# Altium integrated library ALTIUM-WCAP-ASLI-rev17a.IntLib: 142 symbols (part 2 of 2)
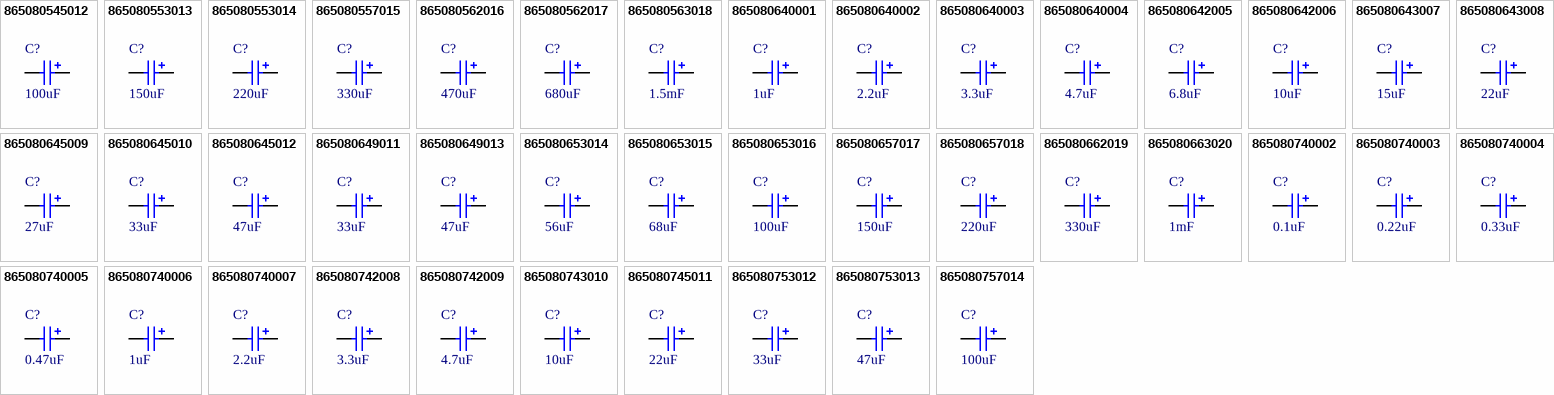
[diagram p4: symbols 865080545012 to 865080757014]

## 865080640004
designator C?  value 4.7uF
WCAP-ASLI Aluminum Electrolytic Capacitors, size Ф4x5.5mm, 50V DC, 4.7uF; Part Number: 865080640004; Rated Voltage: 50V DC; ComponentLink1Description: Manufacturer; ComponentLink1URL: http://www.we-online.de; ComponentLink2Description: Datasheet; ComponentLink2URL: http://katalog.we-online.de/pbs/datasheet/865080640004.pdf; Published Date: June 2017; Publisher: Wurth Elektronik; Size: Ф4x5.5mm; Life Cycle: 2000h; Operating Temperature: -55 °C up to +105 °C
footprint WCAP-ASLI_4x5.5
pins: 1 P, 2 N

## 865080642005
designator C?  value 6.8uF
WCAP-ASLI Aluminum Electrolytic Capacitors, size Ф5x5.5mm, 50V DC, 6.8uF; Part Number: 865080642005; Rated Voltage: 50V DC; ComponentLink1Description: Manufacturer; ComponentLink1URL: http://www.we-online.de; ComponentLink2Description: Datasheet; ComponentLink2URL: http://katalog.we-online.de/pbs/datasheet/865080642005.pdf; Published Date: June 2017; Publisher: Wurth Elektronik; Size: Ф5x5.5mm; Life Cycle: 2000h; Operating Temperature: -55 °C up to +105 °C
footprint WCAP-ASLI_5x5.5
pins: 1 P, 2 N

## 865080642006
designator C?  value 10uF
WCAP-ASLI Aluminum Electrolytic Capacitors, size Ф5x5.5mm, 50V DC, 10uF; Part Number: 865080642006; Rated Voltage: 50V DC; ComponentLink1Description: Manufacturer; ComponentLink1URL: http://www.we-online.de; ComponentLink2Description: Datasheet; ComponentLink2URL: http://katalog.we-online.de/pbs/datasheet/865080642006.pdf; Published Date: June 2017; Publisher: Wurth Elektronik; Size: Ф5x5.5mm; Life Cycle: 2000h; Operating Temperature: -55 °C up to +105 °C
footprint WCAP-ASLI_5x5.5
pins: 1 P, 2 N

## 865080643007
designator C?  value 15uF
WCAP-ASLI Aluminum Electrolytic Capacitors, size Ф6.3x5.5mm, 50V DC, 15uF; Part Number: 865080643007; Rated Voltage: 50V DC; ComponentLink1Description: Manufacturer; ComponentLink1URL: http://www.we-online.de; ComponentLink2Description: Datasheet; ComponentLink2URL: http://katalog.we-online.de/pbs/datasheet/865080643007.pdf; Published Date: June 2017; Publisher: Wurth Elektronik; Size: Ф6.3x5.5mm; Life Cycle: 2000h; Operating Temperature: -55 °C up to +105 °C
footprint WCAP-ASLI_6.3x5.5
pins: 1 P, 2 N

## 865080643008
designator C?  value 22uF
WCAP-ASLI Aluminum Electrolytic Capacitors, size Ф6.3x5.5mm, 50V DC, 22uF; Part Number: 865080643008; Rated Voltage: 50V DC; ComponentLink1Description: Manufacturer; ComponentLink1URL: http://www.we-online.de; ComponentLink2Description: Datasheet; ComponentLink2URL: http://katalog.we-online.de/pbs/datasheet/865080643008.pdf; Published Date: June 2017; Publisher: Wurth Elektronik; Size: Ф6.3x5.5mm; Life Cycle: 2000h; Operating Temperature: -55 °C up to +105 °C
footprint WCAP-ASLI_6.3x5.5
pins: 1 P, 2 N

## 865080645009
designator C?  value 27uF
WCAP-ASLI Aluminum Electrolytic Capacitors, size Ф6.3x7.7mm, 50V DC, 27uF; Part Number: 865080645009; Rated Voltage: 50V DC; ComponentLink1Description: Manufacturer; ComponentLink1URL: http://www.we-online.de; ComponentLink2Description: Datasheet; ComponentLink2URL: http://katalog.we-online.de/pbs/datasheet/865080645009.pdf; Published Date: June 2017; Publisher: Wurth Elektronik; Size: Ф6.3x7.7mm; Life Cycle: 2000h; Operating Temperature: -55 °C up to +105 °C
footprint WCAP-ASLI_6.3x7.7
pins: 1 P, 2 N

## 865080645010
designator C?  value 33uF
WCAP-ASLI Aluminum Electrolytic Capacitors, size Ф6.3x7.7mm, 50V DC, 33uF; Part Number: 865080645010; Rated Voltage: 50V DC; ComponentLink1Description: Manufacturer; ComponentLink1URL: http://www.we-online.de; ComponentLink2Description: Datasheet; ComponentLink2URL: http://katalog.we-online.de/pbs/datasheet/865080645010.pdf; Published Date: June 2017; Publisher: Wurth Elektronik; Size: Ф6.3x7.7mm; Life Cycle: 2000h; Operating Temperature: -55 °C up to +105 °C
footprint WCAP-ASLI_6.3x7.7
pins: 1 P, 2 N

## 865080645012
designator C?  value 47uF
WCAP-ASLI Aluminum Electrolytic Capacitors, size Ф6.3x7.7mm, 50V DC, 47uF; Part Number: 865080645012; Rated Voltage: 50V DC; ComponentLink1Description: Manufacturer; ComponentLink1URL: http://www.we-online.de; ComponentLink2Description: Datasheet; ComponentLink2URL: http://katalog.we-online.de/pbs/datasheet/865080645012.pdf; Published Date: June 2017; Publisher: Wurth Elektronik; Size: Ф6.3x7.7mm; Life Cycle: 2000h; Operating Temperature: -55 °C up to +105 °C
footprint WCAP-ASLI_6.3x7.7
pins: 1 P, 2 N

## 865080649011
designator C?  value 33uF
WCAP-ASLI Aluminum Electrolytic Capacitors, size Ф8x6.5mm, 50V DC, 33uF; Part Number: 865080649011; Rated Voltage: 50V DC; ComponentLink1Description: Manufacturer; ComponentLink1URL: http://www.we-online.de; ComponentLink2Description: Datasheet; ComponentLink2URL: http://katalog.we-online.de/pbs/datasheet/865080649011.pdf; Published Date: June 2017; Publisher: Wurth Elektronik; Size: Ф8x6.5mm; Life Cycle: 2000h; Operating Temperature: -55 °C up to +105 °C
footprint WCAP-ASLI_8x6.5
pins: 1 P, 2 N

## 865080649013
designator C?  value 47uF
WCAP-ASLI Aluminum Electrolytic Capacitors, size Ф8x6.5mm, 50V DC, 47uF; Part Number: 865080649013; Rated Voltage: 50V DC; ComponentLink1Description: Manufacturer; ComponentLink1URL: http://www.we-online.de; ComponentLink2Description: Datasheet; ComponentLink2URL: http://katalog.we-online.de/pbs/datasheet/865080649013.pdf; Published Date: June 2017; Publisher: Wurth Elektronik; Size: Ф8x6.5mm; Life Cycle: 2000h; Operating Temperature: -55 °C up to +105 °C
footprint WCAP-ASLI_8x6.5
pins: 1 P, 2 N

## 865080653014
designator C?  value 56uF
WCAP-ASLI Aluminum Electrolytic Capacitors, size Ф8x10.5mm, 50V DC, 56uF; Part Number: 865080653014; Rated Voltage: 50V DC; ComponentLink1Description: Manufacturer; ComponentLink1URL: http://www.we-online.de; ComponentLink2Description: Datasheet; ComponentLink2URL: http://katalog.we-online.de/pbs/datasheet/865080653014.pdf; Published Date: June 2017; Publisher: Wurth Elektronik; Size: Ф8x10.5mm; Life Cycle: 2000h; Operating Temperature: -55 °C up to +105 °C
footprint WCAP-ASLI_8x10.5
pins: 1 P, 2 N

## 865080653015
designator C?  value 68uF
WCAP-ASLI Aluminum Electrolytic Capacitors, size Ф8x10.5mm, 50V DC, 68uF; Part Number: 865080653015; Rated Voltage: 50V DC; ComponentLink1Description: Manufacturer; ComponentLink1URL: http://www.we-online.de; ComponentLink2Description: Datasheet; ComponentLink2URL: http://katalog.we-online.de/pbs/datasheet/865080653015.pdf; Published Date: June 2017; Publisher: Wurth Elektronik; Size: Ф8x10.5mm; Life Cycle: 2000h; Operating Temperature: -55 °C up to +105 °C
footprint WCAP-ASLI_8x10.5
pins: 1 P, 2 N

## 865080653016
designator C?  value 100uF
WCAP-ASLI Aluminum Electrolytic Capacitors, size Ф8x10.5mm, 50V DC, 100uF; Part Number: 865080653016; Rated Voltage: 50V DC; ComponentLink1Description: Manufacturer; ComponentLink1URL: http://www.we-online.de; ComponentLink2Description: Datasheet; ComponentLink2URL: http://katalog.we-online.de/pbs/datasheet/865080653016.pdf; Published Date: June 2017; Publisher: Wurth Elektronik; Size: Ф8x10.5mm; Life Cycle: 2000h; Operating Temperature: -55 °C up to +105 °C
footprint WCAP-ASLI_8x10.5
pins: 1 P, 2 N

## 865080657017
designator C?  value 150uF
WCAP-ASLI Aluminum Electrolytic Capacitors, size Ф10x10.5mm, 50V DC, 150uF; Part Number: 865080657017; Rated Voltage: 50V DC; ComponentLink1Description: Manufacturer; ComponentLink1URL: http://www.we-online.de; ComponentLink2Description: Datasheet; ComponentLink2URL: http://katalog.we-online.de/pbs/datasheet/865080657017.pdf; Published Date: June 2017; Publisher: Wurth Elektronik; Size: Ф10x10.5mm; Life Cycle: 2000h; Operating Temperature: -55 °C up to +105 °C
footprint WCAP-ASLI_10x10.5
pins: 1 P, 2 N

## 865080657018
designator C?  value 220uF
WCAP-ASLI Aluminum Electrolytic Capacitors, size Ф10x10.5mm, 50V DC, 220uF; Part Number: 865080657018; Rated Voltage: 50V DC; ComponentLink1Description: Manufacturer; ComponentLink1URL: http://www.we-online.de; ComponentLink2Description: Datasheet; ComponentLink2URL: http://katalog.we-online.de/pbs/datasheet/865080657018.pdf; Published Date: June 2017; Publisher: Wurth Elektronik; Size: Ф10x10.5mm; Life Cycle: 2000h; Operating Temperature: -55 °C up to +105 °C
footprint WCAP-ASLI_10x10.5
pins: 1 P, 2 N

## 865080662019
designator C?  value 330uF
WCAP-ASLI Aluminum Electrolytic Capacitors, size Ф12.5x14mm, 50V DC, 330uF; Part Number: 865080662019; Rated Voltage: 50V DC; ComponentLink1Description: Manufacturer; ComponentLink1URL: http://www.we-online.de; ComponentLink2Description: Datasheet; ComponentLink2URL: http://katalog.we-online.de/pbs/datasheet/865080662019.pdf; Published Date: June 2017; Publisher: Wurth Elektronik; Size: Ф12.5x14mm; Life Cycle: 2000h; Operating Temperature: -55 °C up to +105 °C
footprint WCAP-ASLI_12.5x14
pins: 1 P, 2 N

## 865080663020
designator C?  value 1mF
WCAP-ASLI Aluminum Electrolytic Capacitors, size Ф16x17mm, 50V DC, 1mF; Part Number: 865080663020; Rated Voltage: 50V DC; ComponentLink1Description: Manufacturer; ComponentLink1URL: http://www.we-online.de; ComponentLink2Description: Datasheet; ComponentLink2URL: http://katalog.we-online.de/pbs/datasheet/865080663020.pdf; Published Date: June 2017; Publisher: Wurth Elektronik; Size: Ф16x17mm; Life Cycle: 2000h; Operating Temperature: -55 °C up to +105 °C
footprint WCAP-ASLI_16x17
pins: 1 P, 2 N

## 865080740002
designator C?  value 0.1uF
WCAP-ASLI Aluminum Electrolytic Capacitors, size Ф4x5.5mm, 63V DC, 0.1uF; Part Number: 865080740002; Rated Voltage: 63V DC; ComponentLink1Description: Manufacturer; ComponentLink1URL: http://www.we-online.de; ComponentLink2Description: Datasheet; ComponentLink2URL: http://katalog.we-online.de/pbs/datasheet/865080740002.pdf; Published Date: June 2017; Publisher: Wurth Elektronik; Size: Ф4x5.5mm; Life Cycle: 2000h; Operating Temperature: -55 °C up to +105 °C
footprint WCAP-ASLI_4x5.5
pins: 1 P, 2 N

## 865080740003
designator C?  value 0.22uF
WCAP-ASLI Aluminum Electrolytic Capacitors, size Ф4x5.5mm, 63V DC, 0.22uF; Part Number: 865080740003; Rated Voltage: 63V DC; ComponentLink1Description: Manufacturer; ComponentLink1URL: http://www.we-online.de; ComponentLink2Description: Datasheet; ComponentLink2URL: http://katalog.we-online.de/pbs/datasheet/865080740003.pdf; Published Date: June 2017; Publisher: Wurth Elektronik; Size: Ф4x5.5mm; Life Cycle: 2000h; Operating Temperature: -55 °C up to +105 °C
footprint WCAP-ASLI_4x5.5
pins: 1 P, 2 N

## 865080740004
designator C?  value 0.33uF
WCAP-ASLI Aluminum Electrolytic Capacitors, size Ф4x5.5mm, 63V DC, 0.33uF; Part Number: 865080740004; Rated Voltage: 63V DC; ComponentLink1Description: Manufacturer; ComponentLink1URL: http://www.we-online.de; ComponentLink2Description: Datasheet; ComponentLink2URL: http://katalog.we-online.de/pbs/datasheet/865080740004.pdf; Published Date: June 2017; Publisher: Wurth Elektronik; Size: Ф4x5.5mm; Life Cycle: 2000h; Operating Temperature: -55 °C up to +105 °C
footprint WCAP-ASLI_4x5.5
pins: 1 P, 2 N

## 865080740005
designator C?  value 0.47uF
WCAP-ASLI Aluminum Electrolytic Capacitors, size Ф4x5.5mm, 63V DC, 0.47uF; Part Number: 865080740005; Rated Voltage: 63V DC; ComponentLink1Description: Manufacturer; ComponentLink1URL: http://www.we-online.de; ComponentLink2Description: Datasheet; ComponentLink2URL: http://katalog.we-online.de/pbs/datasheet/865080740005.pdf; Published Date: June 2017; Publisher: Wurth Elektronik; Size: Ф4x5.5mm; Life Cycle: 2000h; Operating Temperature: -55 °C up to +105 °C
footprint WCAP-ASLI_4x5.5
pins: 1 P, 2 N

## 865080740006
designator C?  value 1uF
WCAP-ASLI Aluminum Electrolytic Capacitors, size Ф4x5.5mm, 63V DC, 1uF; Part Number: 865080740006; Rated Voltage: 63V DC; ComponentLink1Description: Manufacturer; ComponentLink1URL: http://www.we-online.de; ComponentLink2Description: Datasheet; ComponentLink2URL: http://katalog.we-online.de/pbs/datasheet/865080740006.pdf; Published Date: June 2017; Publisher: Wurth Elektronik; Size: Ф4x5.5mm; Life Cycle: 2000h; Operating Temperature: -55 °C up to +105 °C
footprint WCAP-ASLI_4x5.5
pins: 1 P, 2 N

## 865080740007
designator C?  value 2.2uF
WCAP-ASLI Aluminum Electrolytic Capacitors, size Ф4x5.5mm, 63V DC, 2.2uF; Part Number: 865080740007; Rated Voltage: 63V DC; ComponentLink1Description: Manufacturer; ComponentLink1URL: http://www.we-online.de; ComponentLink2Description: Datasheet; ComponentLink2URL: http://katalog.we-online.de/pbs/datasheet/865080740007.pdf; Published Date: June 2017; Publisher: Wurth Elektronik; Size: Ф4x5.5mm; Life Cycle: 2000h; Operating Temperature: -55 °C up to +105 °C
footprint WCAP-ASLI_4x5.5
pins: 1 P, 2 N

## 865080742008
designator C?  value 3.3uF
WCAP-ASLI Aluminum Electrolytic Capacitors, size Ф5x5.5mm, 63V DC, 3.3uF; Part Number: 865080742008; Rated Voltage: 63V DC; ComponentLink1Description: Manufacturer; ComponentLink1URL: http://www.we-online.de; ComponentLink2Description: Datasheet; ComponentLink2URL: http://katalog.we-online.de/pbs/datasheet/865080742008.pdf; Published Date: June 2017; Publisher: Wurth Elektronik; Size: Ф5x5.5mm; Life Cycle: 2000h; Operating Temperature: -55 °C up to +105 °C
footprint WCAP-ASLI_5x5.5
pins: 1 P, 2 N

## 865080742009
designator C?  value 4.7uF
WCAP-ASLI Aluminum Electrolytic Capacitors, size Ф5x5.5mm, 63V DC, 4.7uF; Part Number: 865080742009; Rated Voltage: 63V DC; ComponentLink1Description: Manufacturer; ComponentLink1URL: http://www.we-online.de; ComponentLink2Description: Datasheet; ComponentLink2URL: http://katalog.we-online.de/pbs/datasheet/865080742009.pdf; Published Date: June 2017; Publisher: Wurth Elektronik; Size: Ф5x5.5mm; Life Cycle: 2000h; Operating Temperature: -55 °C up to +105 °C
footprint WCAP-ASLI_5x5.5
pins: 1 P, 2 N

## 865080743010
designator C?  value 10uF
WCAP-ASLI Aluminum Electrolytic Capacitors, size Ф6.3x5.5mm, 63V DC, 10uF; Part Number: 865080743010; Rated Voltage: 63V DC; ComponentLink1Description: Manufacturer; ComponentLink1URL: http://www.we-online.de; ComponentLink2Description: Datasheet; ComponentLink2URL: http://katalog.we-online.de/pbs/datasheet/865080743010.pdf; Published Date: June 2017; Publisher: Wurth Elektronik; Size: Ф6.3x5.5mm; Life Cycle: 2000h; Operating Temperature: -55 °C up to +105 °C
footprint WCAP-ASLI_6.3x5.5
pins: 1 P, 2 N

## 865080745011
designator C?  value 22uF
WCAP-ASLI Aluminum Electrolytic Capacitors, size Ф6.3x7.7mm, 63V DC, 22uF; Part Number: 865080745011; Rated Voltage: 63V DC; ComponentLink1Description: Manufacturer; ComponentLink1URL: http://www.we-online.de; ComponentLink2Description: Datasheet; ComponentLink2URL: http://katalog.we-online.de/pbs/datasheet/865080745011.pdf; Published Date: June 2017; Publisher: Wurth Elektronik; Size: Ф6.3x7.7mm; Life Cycle: 2000h; Operating Temperature: -55 °C up to +105 °C
footprint WCAP-ASLI_6.3x7.7
pins: 1 P, 2 N

## 865080753012
designator C?  value 33uF
WCAP-ASLI Aluminum Electrolytic Capacitors, size Ф8x10.5mm, 63V DC, 33uF; Part Number: 865080753012; Rated Voltage: 63V DC; ComponentLink1Description: Manufacturer; ComponentLink1URL: http://www.we-online.de; ComponentLink2Description: Datasheet; ComponentLink2URL: http://katalog.we-online.de/pbs/datasheet/865080753012.pdf; Published Date: June 2017; Publisher: Wurth Elektronik; Size: Ф8x10.5mm; Life Cycle: 2000h; Operating Temperature: -55 °C up to +105 °C
footprint WCAP-ASLI_8x10.5
pins: 1 P, 2 N

## 865080753013
designator C?  value 47uF
WCAP-ASLI Aluminum Electrolytic Capacitors, size Ф8x10.5mm, 63V DC, 47uF; Part Number: 865080753013; Rated Voltage: 63V DC; ComponentLink1Description: Manufacturer; ComponentLink1URL: http://www.we-online.de; ComponentLink2Description: Datasheet; ComponentLink2URL: http://katalog.we-online.de/pbs/datasheet/865080753013.pdf; Published Date: June 2017; Publisher: Wurth Elektronik; Size: Ф8x10.5mm; Life Cycle: 2000h; Operating Temperature: -55 °C up to +105 °C
footprint WCAP-ASLI_8x10.5
pins: 1 P, 2 N

## 865080757014
designator C?  value 100uF
WCAP-ASLI Aluminum Electrolytic Capacitors, size Ф10x10.5mm, 63V DC, 100uF; Part Number: 865080757014; Rated Voltage: 63V DC; ComponentLink1Description: Manufacturer; ComponentLink1URL: http://www.we-online.de; ComponentLink2Description: Datasheet; ComponentLink2URL: http://katalog.we-online.de/pbs/datasheet/865080757014.pdf; Published Date: June 2017; Publisher: Wurth Elektronik; Size: Ф10x10.5mm; Life Cycle: 2000h; Operating Temperature: -55 °C up to +105 °C
footprint WCAP-ASLI_10x10.5
pins: 1 P, 2 N

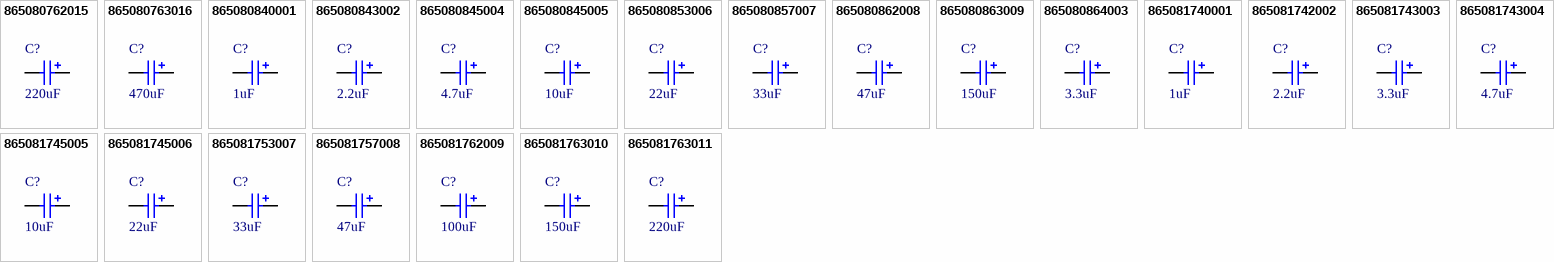
[diagram p3: symbols 865080762015 to 865081763011]

## 865080762015
designator C?  value 220uF
WCAP-ASLI Aluminum Electrolytic Capacitors, size Ф12.5x14mm, 63V DC, 220uF; Part Number: 865080762015; Rated Voltage: 63V DC; ComponentLink1Description: Manufacturer; ComponentLink1URL: http://www.we-online.de; ComponentLink2Description: Datasheet; ComponentLink2URL: http://katalog.we-online.de/pbs/datasheet/865080762015.pdf; Published Date: June 2017; Publisher: Wurth Elektronik; Size: Ф12.5x14mm; Life Cycle: 2000h; Operating Temperature: -55 °C up to +105 °C
footprint WCAP-ASLI_12.5x14
pins: 1 P, 2 N

## 865080763016
designator C?  value 470uF
WCAP-ASLI Aluminum Electrolytic Capacitors, size Ф16x17mm, 63V DC, 470uF; Part Number: 865080763016; Rated Voltage: 63V DC; ComponentLink1Description: Manufacturer; ComponentLink1URL: http://www.we-online.de; ComponentLink2Description: Datasheet; ComponentLink2URL: http://katalog.we-online.de/pbs/datasheet/865080763016.pdf; Published Date: June 2017; Publisher: Wurth Elektronik; Size: Ф16x17mm; Life Cycle: 2000h; Operating Temperature: -55 °C up to +105 °C
footprint WCAP-ASLI_16x17
pins: 1 P, 2 N

## 865080840001
designator C?  value 1uF
WCAP-ASLI Aluminum Electrolytic Capacitors, size Ф4x5.5mm, 100V DC, 1uF; Part Number: 865080840001; Rated Voltage: 100V DC; ComponentLink1Description: Manufacturer; ComponentLink1URL: http://www.we-online.de; ComponentLink2Description: Datasheet; ComponentLink2URL: http://katalog.we-online.de/pbs/datasheet/865080840001.pdf; Published Date: June 2017; Publisher: Wurth Elektronik; Size: Ф4x5.5mm; Life Cycle: 2000h; Operating Temperature: -55 °C up to +105 °C
footprint WCAP-ASLI_4x5.5
pins: 1 P, 2 N

## 865080843002
designator C?  value 2.2uF
WCAP-ASLI Aluminum Electrolytic Capacitors, size Ф6.3x5.5mm, 100V DC, 2.2uF; Part Number: 865080843002; Rated Voltage: 100V DC; ComponentLink1Description: Manufacturer; ComponentLink1URL: http://www.we-online.de; ComponentLink2Description: Datasheet; ComponentLink2URL: http://katalog.we-online.de/pbs/datasheet/865080843002.pdf; Published Date: June 2017; Publisher: Wurth Elektronik; Size: Ф6.3x5.5mm; Life Cycle: 2000h; Operating Temperature: -55 °C up to +105 °C
footprint WCAP-ASLI_6.3x5.5
pins: 1 P, 2 N

## 865080845004
designator C?  value 4.7uF
WCAP-ASLI Aluminum Electrolytic Capacitors, size Ф6.3x7.7mm, 100V DC, 4.7uF; Part Number: 865080845004; Rated Voltage: 100V DC; ComponentLink1Description: Manufacturer; ComponentLink1URL: http://www.we-online.de; ComponentLink2Description: Datasheet; ComponentLink2URL: http://katalog.we-online.de/pbs/datasheet/865080845004.pdf; Published Date: June 2017; Publisher: Wurth Elektronik; Size: Ф6.3x7.7mm; Life Cycle: 2000h; Operating Temperature: -55 °C up to +105 °C
footprint WCAP-ASLI_6.3x7.7
pins: 1 P, 2 N

## 865080845005
designator C?  value 10uF
WCAP-ASLI Aluminum Electrolytic Capacitors, size Ф6.3x7.7mm, 100V DC, 10uF; Part Number: 865080845005; Rated Voltage: 100V DC; ComponentLink1Description: Manufacturer; ComponentLink1URL: http://www.we-online.de; ComponentLink2Description: Datasheet; ComponentLink2URL: http://katalog.we-online.de/pbs/datasheet/865080845005.pdf; Published Date: June 2017; Publisher: Wurth Elektronik; Size: Ф6.3x7.7mm; Life Cycle: 2000h; Operating Temperature: -55 °C up to +105 °C
footprint WCAP-ASLI_6.3x7.7
pins: 1 P, 2 N

## 865080853006
designator C?  value 22uF
WCAP-ASLI Aluminum Electrolytic Capacitors, size Ф8x10.5mm, 100V DC, 22uF; Part Number: 865080853006; Rated Voltage: 100V DC; ComponentLink1Description: Manufacturer; ComponentLink1URL: http://www.we-online.de; ComponentLink2Description: Datasheet; ComponentLink2URL: http://katalog.we-online.de/pbs/datasheet/865080853006.pdf; Published Date: June 2017; Publisher: Wurth Elektronik; Size: Ф8x10.5mm; Life Cycle: 2000h; Operating Temperature: -55 °C up to +105 °C
footprint WCAP-ASLI_8x10.5
pins: 1 P, 2 N

## 865080857007
designator C?  value 33uF
WCAP-ASLI Aluminum Electrolytic Capacitors, size Ф10x10.5mm, 100V DC, 33uF; Part Number: 865080857007; Rated Voltage: 100V DC; ComponentLink1Description: Manufacturer; ComponentLink1URL: http://www.we-online.de; ComponentLink2Description: Datasheet; ComponentLink2URL: http://katalog.we-online.de/pbs/datasheet/865080857007.pdf; Published Date: June 2017; Publisher: Wurth Elektronik; Size: Ф10x10.5mm; Life Cycle: 2000h; Operating Temperature: -55 °C up to +105 °C
footprint WCAP-ASLI_10x10.5
pins: 1 P, 2 N

## 865080862008
designator C?  value 47uF
WCAP-ASLI Aluminum Electrolytic Capacitors, size Ф12.5x14mm, 100V DC, 47uF; Part Number: 865080862008; Rated Voltage: 100V DC; ComponentLink1Description: Manufacturer; ComponentLink1URL: http://www.we-online.de; ComponentLink2Description: Datasheet; ComponentLink2URL: http://katalog.we-online.de/pbs/datasheet/865080862008.pdf; Published Date: June 2017; Publisher: Wurth Elektronik; Size: Ф12.5x14mm; Life Cycle: 2000h; Operating Temperature: -55 °C up to +105 °C
footprint WCAP-ASLI_12.5x14
pins: 1 P, 2 N

## 865080863009
designator C?  value 150uF
WCAP-ASLI Aluminum Electrolytic Capacitors, size Ф16x17mm, 100V DC, 150uF; Part Number: 865080863009; Rated Voltage: 100V DC; ComponentLink1Description: Manufacturer; ComponentLink1URL: http://www.we-online.de; ComponentLink2Description: Datasheet; ComponentLink2URL: http://katalog.we-online.de/pbs/datasheet/865080863009.pdf; Published Date: June 2017; Publisher: Wurth Elektronik; Size: Ф16x17mm; Life Cycle: 2000h; Operating Temperature: -55 °C up to +105 °C
footprint WCAP-ASLI_16x17
pins: 1 P, 2 N

## 865080864003
designator C?  value 3.3uF
WCAP-ASLI Aluminum Electrolytic Capacitors, size Ф6.3x6.1mm, 100V DC, 3.3uF; Part Number: 865080864003; Rated Voltage: 100V DC; ComponentLink1Description: Manufacturer; ComponentLink1URL: http://www.we-online.de; ComponentLink2Description: Datasheet; ComponentLink2URL: http://katalog.we-online.de/pbs/datasheet/865080864003.pdf; Published Date: June 2017; Publisher: Wurth Elektronik; Size: Ф6.3x6.1mm; Life Cycle: 2000h; Operating Temperature: -55 °C up to +105 °C
footprint WCAP-ASLI_6.3x6.1
pins: 1 P, 2 N

## 865081740001
designator C?  value 1uF
WCAP-ASLI Aluminum Electrolytic Capacitors, size Ф4x5.5mm, 80V DC, 1uF; Part Number: 865081740001; Rated Voltage: 80V DC; ComponentLink1Description: Manufacturer; ComponentLink1URL: http://www.we-online.de; ComponentLink2Description: Datasheet; ComponentLink2URL: http://katalog.we-online.de/pbs/datasheet/865081740001.pdf; Published Date: June 2017; Publisher: Wurth Elektronik; Size: Ф4x5.5mm; Life Cycle: 2000h; Operating Temperature: -55 °C up to +105 °C
footprint WCAP-ASLI_4x5.5
pins: 1 P, 2 N

## 865081742002
designator C?  value 2.2uF
WCAP-ASLI Aluminum Electrolytic Capacitors, size Ф5x5.5mm, 80V DC, 2.2uF; Part Number: 865081742002; Rated Voltage: 80V DC; ComponentLink1Description: Manufacturer; ComponentLink1URL: http://www.we-online.de; ComponentLink2Description: Datasheet; ComponentLink2URL: http://katalog.we-online.de/pbs/datasheet/865081742002.pdf; Published Date: June 2017; Publisher: Wurth Elektronik; Size: Ф5x5.5mm; Life Cycle: 2000h; Operating Temperature: -55 °C up to +105 °C
footprint WCAP-ASLI_5x5.5
pins: 1 P, 2 N

## 865081743003
designator C?  value 3.3uF
WCAP-ASLI Aluminum Electrolytic Capacitors, size Ф6.3x5.5mm, 80V DC, 3.3uF; Part Number: 865081743003; Rated Voltage: 80V DC; ComponentLink1Description: Manufacturer; ComponentLink1URL: http://www.we-online.de; ComponentLink2Description: Datasheet; ComponentLink2URL: http://katalog.we-online.de/pbs/datasheet/865081743003.pdf; Published Date: June 2017; Publisher: Wurth Elektronik; Size: Ф6.3x5.5mm; Life Cycle: 2000h; Operating Temperature: -55 °C up to +105 °C
footprint WCAP-ASLI_6.3x5.5
pins: 1 P, 2 N

## 865081743004
designator C?  value 4.7uF
WCAP-ASLI Aluminum Electrolytic Capacitors, size Ф6.3x5.5mm, 80V DC, 4.7uF; Part Number: 865081743004; Rated Voltage: 80V DC; ComponentLink1Description: Manufacturer; ComponentLink1URL: http://www.we-online.de; ComponentLink2Description: Datasheet; ComponentLink2URL: http://katalog.we-online.de/pbs/datasheet/865081743004.pdf; Published Date: June 2017; Publisher: Wurth Elektronik; Size: Ф6.3x5.5mm; Life Cycle: 2000h; Operating Temperature: -55 °C up to +105 °C
footprint WCAP-ASLI_6.3x5.5
pins: 1 P, 2 N

## 865081745005
designator C?  value 10uF
WCAP-ASLI Aluminum Electrolytic Capacitors, size Ф6.3x7.7mm, 80V DC, 10uF; Part Number: 865081745005; Rated Voltage: 80V DC; ComponentLink1Description: Manufacturer; ComponentLink1URL: http://www.we-online.de; ComponentLink2Description: Datasheet; ComponentLink2URL: http://katalog.we-online.de/pbs/datasheet/865081745005.pdf; Published Date: June 2017; Publisher: Wurth Elektronik; Size: Ф6.3x7.7mm; Life Cycle: 2000h; Operating Temperature: -55 °C up to +105 °C
footprint WCAP-ASLI_6.3x7.7
pins: 1 P, 2 N

## 865081745006
designator C?  value 22uF
WCAP-ASLI Aluminum Electrolytic Capacitors, size Ф6.3x7.7mm, 80V DC, 22uF; Part Number: 865081745006; Rated Voltage: 80V DC; ComponentLink1Description: Manufacturer; ComponentLink1URL: http://www.we-online.de; ComponentLink2Description: Datasheet; ComponentLink2URL: http://katalog.we-online.de/pbs/datasheet/865081745006.pdf; Published Date: June 2017; Publisher: Wurth Elektronik; Size: Ф6.3x7.7mm; Life Cycle: 2000h; Operating Temperature: -55 °C up to +105 °C
footprint WCAP-ASLI_6.3x7.7
pins: 1 P, 2 N

## 865081753007
designator C?  value 33uF
WCAP-ASLI Aluminum Electrolytic Capacitors, size Ф8x10.5mm, 80V DC, 33uF; Part Number: 865081753007; Rated Voltage: 80V DC; ComponentLink1Description: Manufacturer; ComponentLink1URL: http://www.we-online.de; ComponentLink2Description: Datasheet; ComponentLink2URL: http://katalog.we-online.de/pbs/datasheet/865081753007.pdf; Published Date: June 2017; Publisher: Wurth Elektronik; Size: Ф8x10.5mm; Life Cycle: 2000h; Operating Temperature: -55 °C up to +105 °C
footprint WCAP-ASLI_8x10.5
pins: 1 P, 2 N

## 865081757008
designator C?  value 47uF
WCAP-ASLI Aluminum Electrolytic Capacitors, size Ф10x10.5mm, 80V DC, 47uF; Part Number: 865081757008; Rated Voltage: 80V DC; ComponentLink1Description: Manufacturer; ComponentLink1URL: http://www.we-online.de; ComponentLink2Description: Datasheet; ComponentLink2URL: http://katalog.we-online.de/pbs/datasheet/865081757008.pdf; Published Date: June 2017; Publisher: Wurth Elektronik; Size: Ф10x10.5mm; Life Cycle: 2000h; Operating Temperature: -55 °C up to +105 °C
footprint WCAP-ASLI_10x10.5
pins: 1 P, 2 N

## 865081762009
designator C?  value 100uF
WCAP-ASLI Aluminum Electrolytic Capacitors, size Ф12.5x14mm, 80V DC, 100uF; Part Number: 865081762009; Rated Voltage: 80V DC; ComponentLink1Description: Manufacturer; ComponentLink1URL: http://www.we-online.de; ComponentLink2Description: Datasheet; ComponentLink2URL: http://katalog.we-online.de/pbs/datasheet/865081762009.pdf; Published Date: June 2017; Publisher: Wurth Elektronik; Size: Ф12.5x14mm; Life Cycle: 2000h; Operating Temperature: -55 °C up to +105 °C
footprint WCAP-ASLI_12.5x14
pins: 1 P, 2 N

## 865081763010
designator C?  value 150uF
WCAP-ASLI Aluminum Electrolytic Capacitors, size Ф16x17mm, 80V DC, 150uF; Part Number: 865081763010; Rated Voltage: 80V DC; ComponentLink1Description: Manufacturer; ComponentLink1URL: http://www.we-online.de; ComponentLink2Description: Datasheet; ComponentLink2URL: http://katalog.we-online.de/pbs/datasheet/865081763010.pdf; Published Date: June 2017; Publisher: Wurth Elektronik; Size: Ф16x17mm; Life Cycle: 2000h; Operating Temperature: -55 °C up to +105 °C
footprint WCAP-ASLI_16x17
pins: 1 P, 2 N

## 865081763011
designator C?  value 220uF
WCAP-ASLI Aluminum Electrolytic Capacitors, size Ф16x17mm, 80V DC, 220uF; Part Number: 865081763011; Rated Voltage: 80V DC; ComponentLink1Description: Manufacturer; ComponentLink1URL: http://www.we-online.de; ComponentLink2Description: Datasheet; ComponentLink2URL: http://katalog.we-online.de/pbs/datasheet/865081763011.pdf; Published Date: June 2017; Publisher: Wurth Elektronik; Size: Ф16x17mm; Life Cycle: 2000h; Operating Temperature: -55 °C up to +105 °C
footprint WCAP-ASLI_16x17
pins: 1 P, 2 N